# EAGLE library part MAX3378E (library X893)
http://www.maxim-ic.com/datasheet/index.mvp/id/3253
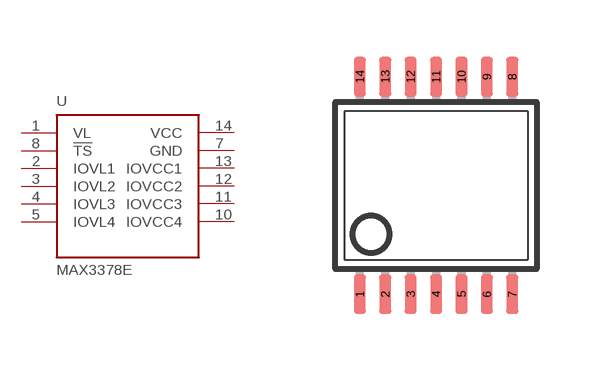
[diagram p113: symbol with the pads of TSSOP14; footprint TSSOP14]

Designator prefix U

## MAX3378E  [TSSOP14]
1  VL  pas
2  IOVL1  pas
3  IOVL2  pas
4  IOVL3  pas
5  IOVL4  pas
6  NC  pas
7  GND  sup
8  !TS  pas
9  NC  pas
10  IOVCC4  pas
11  IOVCC3  pas
12  IOVCC2  pas
13  IOVCC1  pas
14  VCC  pas

## Footprint TSSOP14 (pad centres in mm)
Thin Shrink Small Outline Plastic 14
smd 0.305 x 0.991: 1 -1.905,-2.718; 2 -1.27,-2.718; 3 -0.635,-2.718; 4 0,-2.718; 5 0.635,-2.718; 6 1.27,-2.718; 7 1.905,-2.718; 8 1.905,2.718; 9 1.27,2.718; 10 0.635,2.718; 11 0,2.718; 12 -0.635,2.718; 13 -1.27,2.718; 14 -1.905,2.718